# Altium schematic symbol library Microcontrollers.SchLib: 5 symbols
Pins are listed as number, name and electrical type; pins without a type are passive.

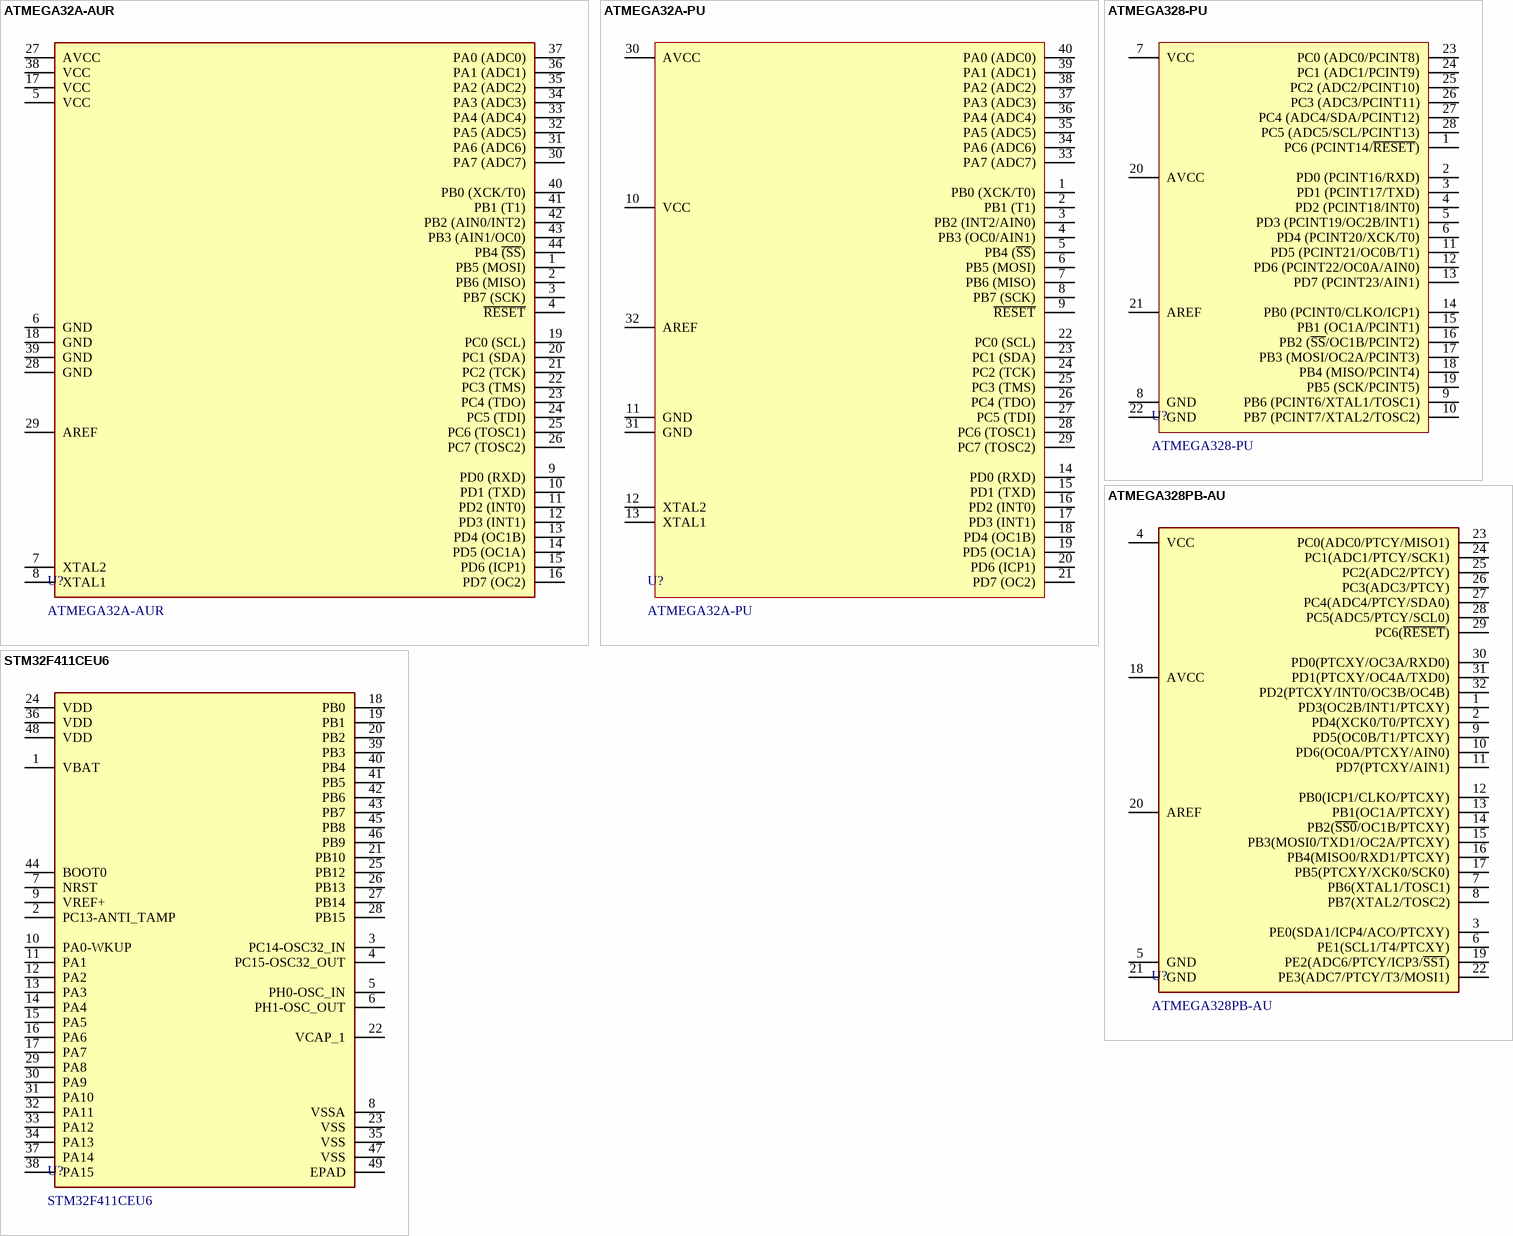
[diagram p0: symbols ATMEGA32A-AUR to STM32F411CEU6]

## ATMEGA32A-AUR
designator U?
IC MCU 8BIT 32KB FLASH 44TQFP; Manufacturer: Microchip; Package Body Material: Plastic; Clock Frequency: 16MHz; Number of I/O Lines: 32; Package Equivalence Code: TQFP44,.47SQ,32; Power Supplies: 3/5V; Speed: 16RPM; Max Supply Current: 15mA; Max Supply Voltage: 5.5V; Min Supply Voltage: 4.5V; Nominal Supply Voltage: 5V; Time @ Peak Reflow Temperature-Max (s): 40s; Qualification Status: Not Qualified; Supplier: Digikey; Supplier Part Number: ATMEGA32A-AURCT-ND; Manufacturer Part Number: ATMEGA32A-AUR; RoHS: Yes; Category: Microcontrollers; Stock: 8459; Pricing: 1=4.26, 25=3.91, 100=3.53 (USD); Case/Package: TQFP; Pins: 44; Package Shape: Square; Terminal Finish: Tin; Min Operating Temperature: -40°C; Max Operating Temperature: 85°C; JESD-609 Code: e3; JESD-30 Code: S-PQFP-G44; Moisture Sensitivity Level: 3; Package Style: FLATPACK, THIN PROFILEMeter; Peak Reflow Temperature (Cel): 260°C; Surface Mount: Yes; Technology: CMOS; Terminal Form: Gull Wing; Terminal Position: QUAD; Length: 10mm; Width: 10mm; Height - Seated (Max): 1.2mm; Terminal Pitch: 0.8mm; Temperature Grade: INDUSTRIAL; Reach SVHC Compliant: Yes; RoHS Compliant: Yes; ComponentLink1URL: https://datasheet.ciiva.com:443/pdfs/VipMasterIC/IC/MCHP/MCHP-S-A0007073706/MCHP-S-A0007073706-1.pdf?src-supplier=IHS+Markit; ComponentLink1Description: https://datasheet.ciiva.com:443/pdfs/VipMasterIC/IC/MCHP/MCHP-S-A0007073706/MCHP-S-A0007073706-1.pdf?src-supplier=IHS+Markit; ComponentLink2URL: http://www.produktinfo.conrad.com/datenblaetter/1200000-1299999/001266863-da-01-en-IC_MCU_8BIT_32_ATMEGA32A_AUR_TQFP_44_ATM.pdf?src-supplier=Conrad; ComponentLink2Description: http://www.produktinfo.conrad.com/datenblaetter/1200000-1299999/001266863-da-01-en-IC_MCU_8BIT_32_ATMEGA32A_AUR_TQFP_44_ATM.pdf?src-supplier=Conrad; ComponentLink3URL: https://www.verical.com/server-webapp/html/getDatasheet?partID=325472&src-supplier=Verical; ComponentLink3Description: https://www.verical.com/server-webapp/html/getDatasheet?partID=325472&src-supplier=Verical; ComponentLink4URL: https://4donline.ihs.com/images/VipMasterIC/IC/ATML/ATML-S-A0002365299/ATML-S-A0002365299-1.pdf?hkey=6D3A4C79FDBF58556ACFDE234799DDF0&src-supplier=Farnell; ComponentLink4Description: https://4donline.ihs.com/images/VipMasterIC/IC/ATML/ATML-S-A0002365299/ATML-S-A0002365299-1.pdf?hkey=6D3A4C79FDBF58556ACFDE234799DDF0&src-supplier=Farnell; ComponentLink5URL: http://www.microchip.com/mymicrochip/filehandler.aspx?ddocname=en590540&src-supplier=Digikey; ComponentLink5Description: http://www.microchip.com/mymicrochip/filehandler.aspx?ddocname=en590540&src-supplier=Digikey; ComponentLink6URL: http://www.microchip.com/mymicrochip/filehandler.aspx?ddocname=en590541&src-supplier=Digikey; ComponentLink6Description: http://www.microchip.com/mymicrochip/filehandler.aspx?ddocname=en590541&src-supplier=Digikey; ComponentLink7URL: https://4donline.ihs.com/images/VipMasterIC/IC/ATML/ATML-S-A0002365299/ATML-S-A0002365299-1.pdf?hkey=6D3A4C79FDBF58556ACFDE234799DDF0&src-supplier=Newark; ComponentLink7Description: https://4donline.ihs.com/images/VipMasterIC/IC/ATML/ATML-S-A0002365299/ATML-S-A0002365299-1.pdf?hkey=6D3A4C79FDBF58556ACFDE234799DDF0&src-supplier=Newark; ComponentLink8URL: https://4donline.ihs.com/images/VipMasterIC/IC/ATML/ATML-S-A0002365299/ATML-S-A0002365299-1.pdf?hkey=6D3A4C79FDBF58556ACFDE234799DDF0&src-supplier=Element14; ComponentLink8Description: https://4donline.ihs.com/images/VipMasterIC/IC/ATML/ATML-S-A0002365299/ATML-S-A0002365299-1.pdf?hkey=6D3A4C79FDBF58556ACFDE234799DDF0&src-supplier=Element14; ComponentLink9URL: https://datasheet.octopart.com/ATMEGA32A-AUR-Microchip-datasheet-82994710.pdf?src-supplier=SHENGYU+ELECTRONICS; ComponentLink9Description: https://datasheet.octopart.com/ATMEGA32A-AUR-Microchip-datasheet-82994710.pdf?src-supplier=SHENGYU+ELECTRONICS; ComponentLink10URL: https://datasheet.octopart.com/ATMEGA32A-AUR-Microchip-datasheet-101951893.pdf?src-supplier=Electro+Sonic; ComponentLink10Description: https://datasheet.octopart.com/ATMEGA32A-AUR-Microchip-datasheet-101951893.pdf?src-supplier=Electro+Sonic; ComponentLink11URL: https://datasheet.octopart.com/ATMEGA32A-AUR-Microchip-datasheet-147334535.pdf?src-supplier=microchipDIRECT; ComponentLink11Description: https://datasheet.octopart.com/ATMEGA32A-AUR-Microchip-datasheet-147334535.pdf?src-supplier=microchipDIRECT
footprint TQFP-44-10X10
pins: 1 PB5 (MOSI), 2 PB6 (MISO), 3 PB7 (SCK), 4 ~{RESET}, 5 VCC, 6 GND, 7 XTAL2, 8 XTAL1, 9 PD0 (RXD), 10 PD1 (TXD), 11 PD2 (INT0), 12 PD3 (INT1), 13 PD4 (OC1B), 14 PD5 (OC1A), 15 PD6 (ICP1), 16 PD7 (OC2), 17 VCC, 18 GND, 19 PC0 (SCL), 20 PC1 (SDA), 21 PC2 (TCK), 22 PC3 (TMS), 23 PC4 (TDO), 24 PC5 (TDI), 25 PC6 (TOSC1), 26 PC7 (TOSC2), 27 AVCC, 28 GND, 29 AREF, 30 PA7 (ADC7), 31 PA6 (ADC6), 32 PA5 (ADC5), 33 PA4 (ADC4), 34 PA3 (ADC3), 35 PA2 (ADC2), 36 PA1 (ADC1), 37 PA0 (ADC0), 38 VCC, 39 GND, 40 PB0 (XCK/T0), 41 PB1 (T1), 42 PB2 (AIN0/INT2), 43 PB3 (AIN1/OC0), 44 PB4 ~{(SS})

## ATMEGA32A-PU
designator U?
IC MCU 8BIT 32KB FLASH 40DIP; Manufacturer: Microchip; Package Body Material: Plastic; Clock Frequency: 16MHz; Number of I/O Lines: 32; Package Equivalence Code: DIP40,.6; Power Supplies: 3/5V; Speed: 16RPM; Max Supply Current: 15mA; Max Supply Voltage: 5.5V; Min Supply Voltage: 4.5V; Nominal Supply Voltage: 5V; Surface Mount: No; Qualification Status: Not Qualified; Supplier: Digikey; Supplier Part Number: ATMEGA32A-PU-ND; Manufacturer Part Number: ATMEGA32A-PU; RoHS: Yes; Stock: 6614; Pricing: 1=4.89, 25=4.48, 100=4.07 (USD); Case/Package: DIP; Pins: 40; Package Shape: Rectangular; Min Operating Temperature: -40°C; Max Operating Temperature: 85°C; JESD-30 Code: R-PDIP-T40; Package Style: IN-LINEMeter; Technology: CMOS; Terminal Form: Through Hole; Terminal Position: DUAL; Length: 52.324mm; Width: 15.24mm; Height - Seated (Max): 4.826mm; Terminal Pitch: 2.54mm; Reach SVHC Compliant: Yes; RoHS Compliant: Yes; Temperature Grade: INDUSTRIAL; ComponentLink1URL: https://datasheet.ciiva.com:443/pdfs/VipMasterIC/IC/ATML/ATML-S-A0002365299/ATML-S-A0002365299-1.pdf?src-supplier=IHS+Markit; ComponentLink1Description: https://datasheet.ciiva.com:443/pdfs/VipMasterIC/IC/ATML/ATML-S-A0002365299/ATML-S-A0002365299-1.pdf?src-supplier=IHS+Markit; ComponentLink2URL: https://datasheet.ciiva.com/24154/atmel-8155-8-bit-microcontroller-avr-atmega32a-datasheet-24154144.pdf?src-supplier=Future+Electronics; ComponentLink2Description: https://datasheet.ciiva.com/24154/atmel-8155-8-bit-microcontroller-avr-atmega32a-datasheet-24154144.pdf?src-supplier=Future+Electronics; ComponentLink3URL: https://datasheet.ciiva.com/1157/1598182-1157756.pdf?src-supplier=Element14; ComponentLink3Description: https://datasheet.ciiva.com/1157/1598182-1157756.pdf?src-supplier=Element14
footprint 40-PDIP
pins: 1 PB0 (XCK/T0), 2 PB1 (T1), 3 PB2 (INT2/AIN0), 4 PB3 (OC0/AIN1), 5 PB4 (~{SS}), 6 PB5 (MOSI), 7 PB6 (MISO), 8 PB7 (SCK), 9 ~{RESET}, 10 VCC, 11 GND, 12 XTAL2, 13 XTAL1, 14 PD0 (RXD), 15 PD1 (TXD), 16 PD2 (INT0), 17 PD3 (INT1), 18 PD4 (OC1B), 19 PD5 (OC1A), 20 PD6 (ICP1), 21 PD7 (OC2), 22 PC0 (SCL), 23 PC1 (SDA), 24 PC2 (TCK), 25 PC3 (TMS), 26 PC4 (TDO), 27 PC5 (TDI), 28 PC6 (TOSC1), 29 PC7 (TOSC2), 30 AVCC, 31 GND, 32 AREF, 33 PA7 (ADC7), 34 PA6 (ADC6), 35 PA5 (ADC5), 36 PA4 (ADC4), 37 PA3 (ADC3), 38 PA2 (ADC2), 39 PA1 (ADC1), 40 PA0 (ADC0)

## ATMEGA328-PU
designator U?
IC MCU 8BIT 32KB FLASH 28DIP; Manufacturer: Microchip; Package Body Material: Plastic; Clock Frequency: 20MHz; Number of I/O Lines: 23; Package Equivalence Code: DIP28,.3; Power Supplies: 2.5V; Speed: 20RPM; Max Supply Current: 12mA; Max Supply Voltage: 5.5V; Min Supply Voltage: 4.5V; Nominal Supply Voltage: 5V; Surface Mount: No; Qualification Status: Not Qualified; Supplier: Digikey; Supplier Part Number: ATMEGA328-PU-ND; Manufacturer Part Number: ATMEGA328-PU; RoHS: Yes; Stock: 37687; Pricing: 1=2.63, 25=2.4, 100=2.19 (USD); Case/Package: DIP; Pins: 28; Package Shape: Rectangular; Min Operating Temperature: -40°C; Max Operating Temperature: 85°C; JESD-30 Code: R-PDIP-T28; Package Style: IN-LINEMeter; Technology: CMOS; Terminal Form: Through Hole; Terminal Position: DUAL; Length: 34.671mm; Width: 7.62mm; Height - Seated (Max): 4.5724mm; Terminal Pitch: 2.54mm; Temperature Grade: INDUSTRIAL; Reach SVHC Compliant: Yes; RoHS Compliant: Yes; ComponentLink1URL: https://datasheet.ciiva.com:443/pdfs/VipMasterIC/IC/ATML/ATML-S-A0002642585/ATML-S-A0002642585-1.pdf?src-supplier=IHS+Markit; ComponentLink1Description: https://datasheet.ciiva.com:443/pdfs/VipMasterIC/IC/ATML/ATML-S-A0002642585/ATML-S-A0002642585-1.pdf?src-supplier=IHS+Markit; ComponentLink2URL: http://uk.rs-online.com/webdocs/0db4/0900766b80db4deb.pdf?src-supplier=Rs; ComponentLink2Description: http://uk.rs-online.com/webdocs/0db4/0900766b80db4deb.pdf?src-supplier=Rs; ComponentLink3URL: http://www.microchip.com/mymicrochip/filehandler.aspx?ddocname=en589968&src-supplier=Digikey; ComponentLink3Description: http://www.microchip.com/mymicrochip/filehandler.aspx?ddocname=en589968&src-supplier=Digikey; ComponentLink4URL: http://www.farnell.com/datasheets/2047852.pdf?src-supplier=Farnell; ComponentLink4Description: http://www.farnell.com/datasheets/2047852.pdf?src-supplier=Farnell; ComponentLink5URL: https://datasheet.octopart.com/ATMEGA328-PU-Microchip-datasheet-62316222.pdf?src-supplier=Element14; ComponentLink5Description: https://datasheet.octopart.com/ATMEGA328-PU-Microchip-datasheet-62316222.pdf?src-supplier=Element14; ComponentLink6URL: https://datasheet.octopart.com/ATMEGA328-PU-Microchip-datasheet-14421303.pdf?src-supplier=Newark; ComponentLink6Description: https://datasheet.octopart.com/ATMEGA328-PU-Microchip-datasheet-14421303.pdf?src-supplier=Newark
footprint PDIP-28 (28-Pin Plastic Dual In-Line Package (PDIP))
pins: 1 PC6 (PCINT14/~{RESET}), 2 PD0 (PCINT16/RXD), 3 PD1 (PCINT17/TXD), 4 PD2 (PCINT18/INT0), 5 PD3 (PCINT19/OC2B/INT1), 6 PD4 (PCINT20/XCK/T0), 7 VCC, 8 GND, 9 PB6 (PCINT6/XTAL1/TOSC1), 10 PB7 (PCINT7/XTAL2/TOSC2), 11 PD5 (PCINT21/OC0B/T1), 12 PD6 (PCINT22/OC0A/AIN0), 13 PD7 (PCINT23/AIN1), 14 PB0 (PCINT0/CLKO/ICP1), 15 PB1 (OC1A/PCINT1), 16 PB2 (~{SS}/OC1B/PCINT2), 17 PB3 (MOSI/OC2A/PCINT3), 18 PB4 (MISO/PCINT4), 19 PB5 (SCK/PCINT5), 20 AVCC, 21 AREF, 22 GND, 23 PC0 (ADC0/PCINT8), 24 PC1 (ADC1/PCINT9), 25 PC2 (ADC2/PCINT10), 26 PC3 (ADC3/PCINT11), 27 PC4 (ADC4/SDA/PCINT12), 28 PC5 (ADC5/SCL/PCINT13)

## ATMEGA328PB-AU
designator U?
IC MCU 8BIT 32KB FLASH 32TQFP; Manufacturer: Microchip; Supplier: Digikey; Supplier Part Number: ATMEGA328PB-AU-ND; Manufacturer Part Number: ATMEGA328PB-AU; RoHS: No; Stock: 2830; Pricing: 1=1.63, 25=1.49, 100=1.35 (USD); Technology: CMOS; ComponentLink1URL: https://datasheet.ciiva.com:443/pdfs/VipMasterIC/IC/ATML/ATML-S-A0001248617/ATML-S-A0001248617-1.pdf?src-supplier=IHS+Markit; ComponentLink1Description: https://datasheet.ciiva.com:443/pdfs/VipMasterIC/IC/ATML/ATML-S-A0001248617/ATML-S-A0001248617-1.pdf?src-supplier=IHS+Markit; ComponentLink2URL: https://datasheet.octopart.com/ATMEGA328PB-AU-Microchip-datasheet-62062422.pdf?src-supplier=Farnell; ComponentLink2Description: https://datasheet.octopart.com/ATMEGA328PB-AU-Microchip-datasheet-62062422.pdf?src-supplier=Farnell; ComponentLink3URL: http://www.microchip.com/mymicrochip/filehandler.aspx?ddocname=en589666&src-supplier=Digikey; ComponentLink3Description: http://www.microchip.com/mymicrochip/filehandler.aspx?ddocname=en589666&src-supplier=Digikey; ComponentLink4URL: http://www.farnell.com/datasheets/2014286.pdf?src-supplier=Element14; ComponentLink4Description: http://www.farnell.com/datasheets/2014286.pdf?src-supplier=Element14; ComponentLink5URL: http://www.farnell.com/datasheets/2014286.pdf?src-supplier=Newark; ComponentLink5Description: http://www.farnell.com/datasheets/2014286.pdf?src-supplier=Newark; ComponentLink6URL: https://datasheet.octopart.com/ATMEGA328PB-AU-Microchip-datasheet-81466992.pdf?src-supplier=TME; ComponentLink6Description: https://datasheet.octopart.com/ATMEGA328PB-AU-Microchip-datasheet-81466992.pdf?src-supplier=TME; ComponentLink7URL: https://datasheet.octopart.com/ATMEGA328PB-AU-Microchip-datasheet-154741725.pdf?src-supplier=Electro+Sonic; ComponentLink7Description: https://datasheet.octopart.com/ATMEGA328PB-AU-Microchip-datasheet-154741725.pdf?src-supplier=Electro+Sonic
footprint TQFP-32-7X7
pins: 1 PD3(OC2B/INT1/PTCXY), 2 PD4(XCK0/T0/PTCXY), 3 PE0(SDA1/ICP4/ACO/PTCXY), 4 VCC, 5 GND, 6 PE1(SCL1/T4/PTCXY), 7 PB6(XTAL1/TOSC1), 8 PB7(XTAL2/TOSC2), 9 PD5(OC0B/T1/PTCXY), 10 PD6(OC0A/PTCXY/AIN0), 11 PD7(PTCXY/AIN1), 12 PB0(ICP1/CLKO/PTCXY), 13 PB1(OC1A/PTCXY), 14 PB2(~{SS0}/OC1B/PTCXY), 15 PB3(MOSI0/TXD1/OC2A/PTCXY), 16 PB4(MISO0/RXD1/PTCXY), 17 PB5(PTCXY/XCK0/SCK0), 18 AVCC, 19 PE2(ADC6/PTCY/ICP3/~{SS1}), 20 AREF, 21 GND, 22 PE3(ADC7/PTCY/T3/MOSI1), 23 PC0(ADC0/PTCY/MISO1), 24 PC1(ADC1/PTCY/SCK1), 25 PC2(ADC2/PTCY), 26 PC3(ADC3/PTCY), 27 PC4(ADC4/PTCY/SDA0), 28 PC5(ADC5/PTCY/SCL0), 29 PC6(~{RESET}), 30 PD0(PTCXY/OC3A/RXD0), 31 PD1(PTCXY/OC4A/TXD0), 32 PD2(PTCXY/INT0/OC3B/OC4B)

## STM32F411CEU6
designator U?
IC MCU 32BIT 512KB FLSH 48UFQFPN; Manufacturer: STMicroelectronics; ADC Channels (Resolution): 10-Ch 12-Bit; Core Architecture: ARM Cortex-M4; Data Bus Width: 32b; EEPROM Memory Size: 0B; Frequency: 100MHz; Interface: SDIO, USB; Clock Frequency: 26MHz; Max Power Dissipation: 625mW; Max Supply Current: 34.5mA; Max Supply Voltage: 3.6V; Memory Format: FLASH; Min Supply Voltage: 1.7V; Nominal Supply Current: 1.8µA; Number of A/D Converters: 1; Number of ADC Channels: 16; Number of Channels: 10; Number of I2C Channels: 3; Number of I/Os: 36; Number of SPI Channels: 5; Number of Timers/Counters: 2; Operating Supply Voltage: 3.3V; Oscillator Type: Internal; Peripherals: POR; RAM Size: 128kB; Watchdog Timer: Yes; Supplier: DigiKey; Supplier Part Number: 497-14907-ND; Manufacturer Part Number: STM32F411CEU6; RoHS: Compliant; Category: Microcontrollers; Stock: 3816; Pricing: 1=6.18, 10=4.745, 25=4.386, 100=3.991, 260=3.79569, 520=3.68344, 1040=3.59105, 2600=3.49353 (USD); Case/Package: UFQFPN; China RoHS: Compliant; Flash Memory Size: 512kB; Height - Seated (Max): 600µm; Lead Free: Lead Free; Length: 7mm; Lifecycle Status: Production; Max Operating Temperature: 85°C; Memory Size: 512kB; Min Operating Temperature: -40°C; Mounting Technology: Surface Mount; Number of Interrupts: 16; Pins: 48; Number of Programmable I/O: 36; Number of Terminals: 48; Number of USART Channels: 3; Packaging: Cut Tape; Radiation Hardening: No; REACH SVHC: Yes; Schedule B: 8542310000, 8542310000|8542310000|8542310000|8542310000|8542310000|8542310000|8542310000|8542310000|8542310000|8542310000|8542310000|8542310000|8542310000|8542310000|8542310000|8542310000|8542310000|8542310000|8542310000|8542310000|8542310000|8542310000|8542310000|85; Terminal Pitch: 500µm; Width: 7mm; ComponentLink1URL: https://datasheet.octopart.com:443/STM32F411CEU6-STMicroelectronics-datasheet-41919523.pdf?src-supplier=element14+APAC; ComponentLink1Description: https://datasheet.octopart.com:443/STM32F411CEU6-STMicroelectronics-datasheet-41919523.pdf?src-supplier=element14+APAC; ComponentLink2URL: https://datasheet.octopart.com:443/STM32F411CEU6-STMicroelectronics-datasheet-27102711.pdf?src-supplier=Upverter; ComponentLink2Description: https://datasheet.octopart.com:443/STM32F411CEU6-STMicroelectronics-datasheet-27102711.pdf?src-supplier=Upverter; ComponentLink3URL: https://datasheet.octopart.com:443/STM32F411CEU6-STMicroelectronics-datasheet-114750309.pdf?src-supplier=Newark; ComponentLink3Description: https://datasheet.octopart.com:443/STM32F411CEU6-STMicroelectronics-datasheet-114750309.pdf?src-supplier=Newark; ComponentLink4URL: https://datasheet.octopart.com:443/STM32F411CEU6-STMicroelectronics-datasheet-34219326.pdf?src-supplier=Newark; ComponentLink4Description: https://datasheet.octopart.com:443/STM32F411CEU6-STMicroelectronics-datasheet-34219326.pdf?src-supplier=Newark; ComponentLink5URL: https://datasheet.octopart.com:443/STM32F411CEU6-STMicroelectronics-datasheet-82511007.pdf?src-supplier=SHENGYU+ELECTRONICS; ComponentLink5Description: https://datasheet.octopart.com:443/STM32F411CEU6-STMicroelectronics-datasheet-82511007.pdf?src-supplier=SHENGYU+ELECTRONICS
footprint UFQFN-48-7X7_EXPOSED_PAD
pins: 1 VBAT, 2 PC13-ANTI_TAMP, 3 PC14-OSC32_IN, 4 PC15-OSC32_OUT, 5 PH0-OSC_IN, 6 PH1-OSC_OUT, 7 NRST, 8 VSSA, 9 VREF+, 10 PA0-WKUP, 11 PA1, 12 PA2, 13 PA3, 14 PA4, 15 PA5, 16 PA6, 17 PA7, 18 PB0, 19 PB1, 20 PB2, 21 PB10, 22 VCAP_1, 23 VSS, 24 VDD, 25 PB12, 26 PB13, 27 PB14, 28 PB15, 29 PA8, 30 PA9, 31 PA10, 32 PA11, 33 PA12, 34 PA13, 35 VSS, 36 VDD, 37 PA14, 38 PA15, 39 PB3, 40 PB4, 41 PB5, 42 PB6, 43 PB7, 44 BOOT0, 45 PB8, 46 PB9, 47 VSS, 48 VDD, 49 EPAD